# Altium schematic symbol library Jumper 1X2.SchLib: 1 symbol
Pins are listed as number, name and electrical type; pins without a type are passive.

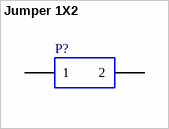
[diagram p0: symbol Jumper 1X2]

## Jumper 1X2
designator P?
Jumper, 1-Pin, Dual row
pins: 1, 2